# Altium schematic symbol library BBCMP-P6.SchLib: 1 symbol
Pins are listed as number, name and electrical type; pins without a type are passive.

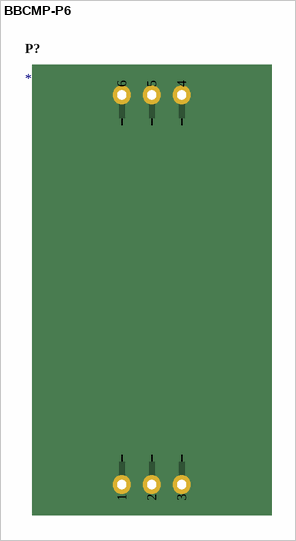
[diagram p0: symbol BBCMP-P6]

## BBCMP-P6
designator P?  (no BOM)
pins: 1, 2, 3, 4, 5, 6